# Altium footprint library SnapEDApcb.PcbLib: 1 footprints
Each footprint in its own frame and in the unit in brackets; x right, y up, seen from the top. Pads: shape width x height; smd on the part's side, far side on the other; paste and mask are expansions set on the pad; w line width, h text height; cw(c..) or ccw(c..) is an arc to the next point about the centre after c.
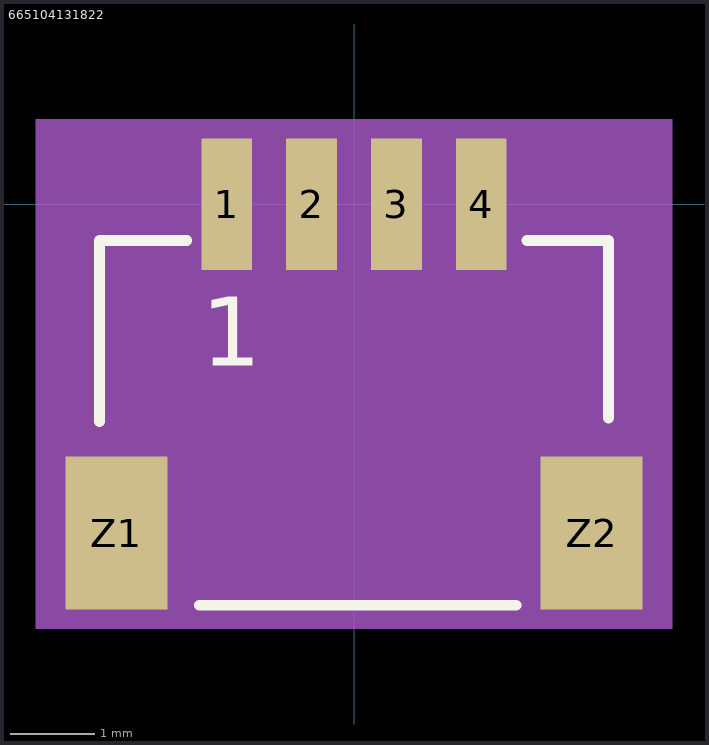
[diagram p0: the footprint, top view; thin cyan lines are the x and y axes]

## 665104131822 [mm]
pads (6):
  rect 0.6x1.55 smd: 1(-1.5,0) 2(-0.5,0) 3(0.5,0) 4(1.5,0)
  rect 1.2x1.8 smd: Z1(-2.8,-3.875) Z2(2.8,-3.875)
Top Overlay:
  lines w0.127: -3,-2.56 -3,-0.425 -1.97,-0.425 ; -1.82,-4.725 1.91,-4.725 ; 2.04,-0.425 3,-0.425 3,-2.52
  text "1" at -1.8,-1.9 h0.81
Mechanical 13:
  lines w0.127: -3,-4.725 3,-4.725 3,-0.425 -3,-0.425 -3,-4.725
  text "1" at -1.8,-1.9 h0.81
Mechanical 15:
  region: 3.75,-5 -3.75,-5 -3.75,1 3.75,1
3D body "665104131822_Download_STP_665104131822_rev1.stp": height 3.07, standoff -0.03, extent -3,-4.461 3,0.539